# Altium footprint library Diode.PcbLib: 1 footprints
Each footprint in its own frame and in the unit in brackets; x right, y up, seen from the top. Pads: shape width x height; smd on the part's side, far side on the other; paste and mask are expansions set on the pad; w line width, h text height; cw(c..) or ccw(c..) is an arc to the next point about the centre after c.
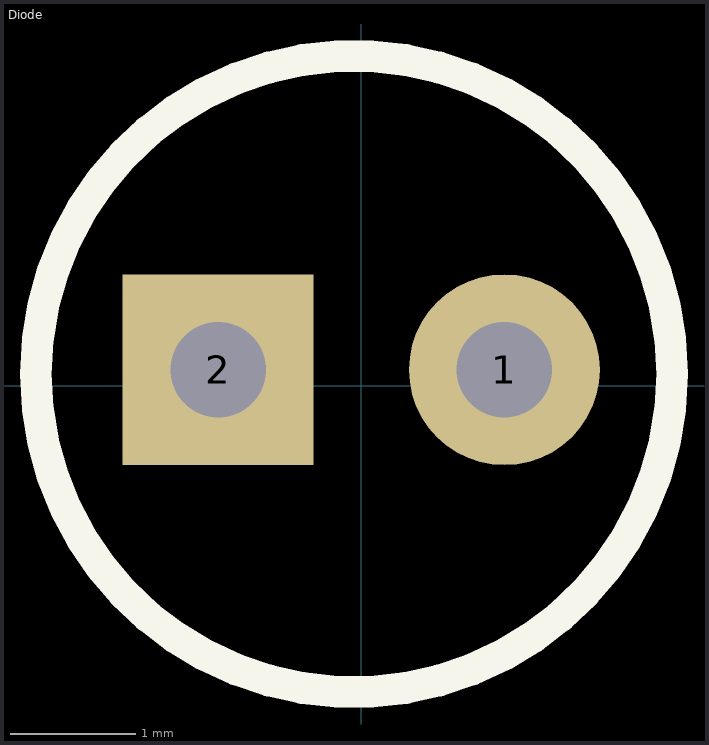
[diagram p0: the footprint, top view; thin cyan lines are the x and y axes]

## Diode [mil]
pads (2):
  round 60 hole 30: 1(45,5)
  rect 60x60 hole 30: 2(-45,5)
Top Overlay:
  circle w10: c-2.28,3.66 r100